# Altium schematic symbol library ADA4861-3.SchLib: 1 symbol
Pins are listed as number, name and electrical type; pins without a type are passive.

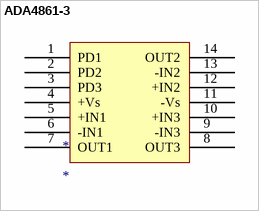
[diagram p0: symbol ADA4861-3]

## ADA4861-3
designator *
pins: 1 PD1, 2 PD2, 3 PD3, 4 +Vs, 5 +IN1, 6 -IN1, 7 OUT1, 8 OUT3, 9 -IN3, 10 +IN3, 11 -Vs, 12 +IN2, 13 -IN2, 14 OUT2